# Altium schematic symbol library Schlib1.SchLib: 10 symbols
Pins are listed as number, name and electrical type; pins without a type are passive.

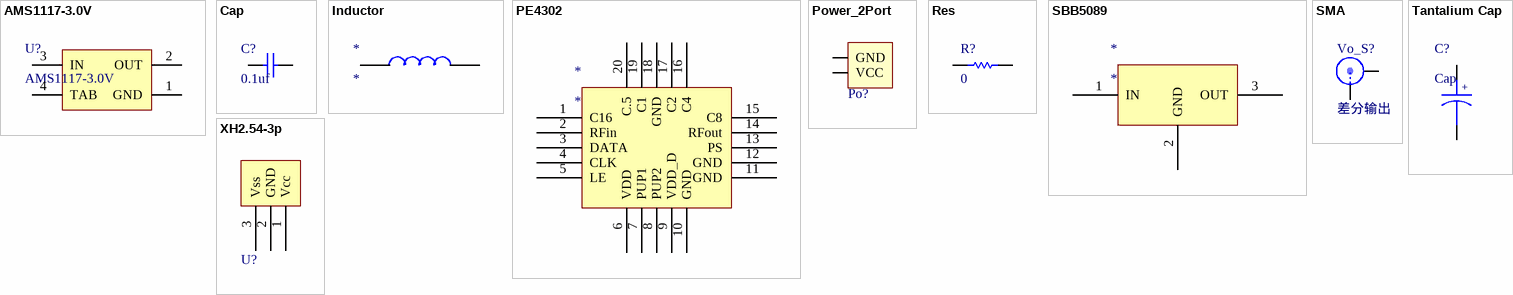
[diagram p0: symbols AMS1117-3.0V to XH2.54-3p]

## AMS1117-3.0V
designator U?
footprint SOT223
pins: 1 GND (power), 2 OUT (power), 3 IN (power), 4 TAB (power)

## Cap
designator C?, comment 0.1uf
footprint 0805
footprint 0603C
pins: 1, 2

## Inductor
designator *
footprint 0805
pins: 1, 2

## PE4302
designator *
footprint LC-QFN-20_4x4x05P
pins: 1 C16, 2 RFin, 3 DATA, 4 CLK, 5 LE, 6 VDD, 7 PUP1, 8 PUP2, 9 VDD_D, 10 GND, 11 GND, 12 GND, 13 PS, 14 RFout, 15 C8, 16 C4, 17 C2, 18 GND, 19 C1, 20 C.5

## Power_2Port
designator Po?  (value not drawn)
footprint Power_S_2Port
pins: 1 VCC, 2 GND

## Res
designator R?, comment 0
footprint 0805
footprint 0603R
pins: 1, 2

## SBB5089
designator *
footprint SOT-89
pins: 1 IN, 2 GND, 3 OUT

## SMA
designator Vo_S?, comment 差分输出
footprint SMA-LYING
footprint SMA-STAND
pins: 0, 1

## Tantalium Cap
designator C?, comment Cap
footprint 7343-31 TYPE D
pins: 1, 2
text: +

## XH2.54-3p
designator U?  (value not drawn)
footprint XH2.54-3p
pins: 1 Vcc, 2 GND, 3 Vss